# EAGLE library part 1747981-1 (library Connectors_1)
CONN RCPT HDMI 19POS PNL MNT R/A Manufacturer's datasheet <https://www.te.com/commerce/DocumentDelivery/DDEController?Action=srchrtrv&DocNm=1747981&DocType=Customer+Drawing&DocLang=English>
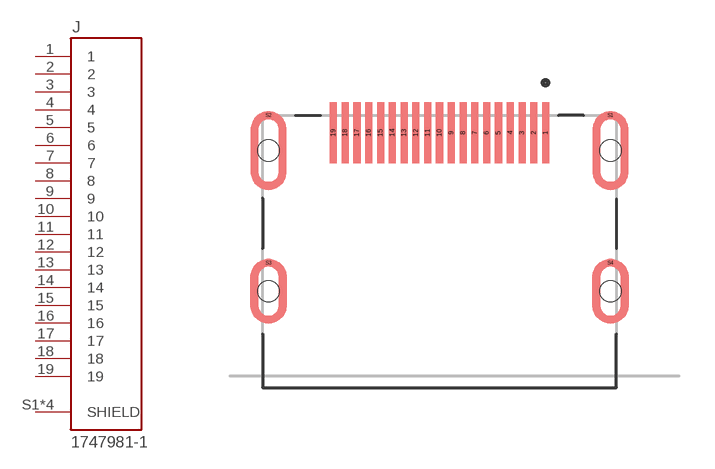
[diagram p3: symbol with the pads of 1747981-1; footprint 1747981-1]

Designator prefix J

## 1747981-1 (CREATED_BY: PCBLayout.com; DIGI_KEY_PART_NUMBER: A35071CT-ND; MANUFACTURER: TE Connectivity AMP Connectors; MPN: 1747981-1)  [1747981-1]
1  1  pas
2  2  pas
3  3  pas
4  4  pas
5  5  pas
6  6  pas
7  7  pas
8  8  pas
9  9  pas
10  10  pas
11  11  pas
12  12  pas
13  13  pas
14  14  pas
15  15  pas
16  16  pas
17  17  pas
18  18  pas
19  19  pas
S1  SHIELD  pwr
S2  SHIELD  pwr
S3  SHIELD  pwr
S4  SHIELD  pwr

## Footprint 1747981-1 (pad centres in mm)
smd 0.3 x 2.6: 1 4.5,0.76; 2 4,0.76; 3 3.5,0.76; 4 3,0.76; 5 2.5,0.76; 6 2,0.76; 7 1.5,0.76; 8 1,0.76; 9 0.5,0.76; 10 0,0.76; 11 -0.5,0.76; 12 -1,0.76; 13 -1.5,0.76; 14 -2,0.76; 15 -2.5,0.76; 16 -3,0.76; 17 -3.5,0.76; 18 -4,0.76; 19 -4.5,0.76
smd 0.1 x 0.1: S1 7.25,1.5; S2 -7.25,1.5; S3 -7.25,-4.76; S4 7.25,-4.76
hole 0.9 at 7.25,0
hole 0.9 at -7.25,0
hole 0.9 at -7.25,-5.96
hole 0.9 at 7.25,-5.96